# Altium footprint library ti_rba.PcbLib: 1 footprints
Each footprint in its own frame and in the unit in brackets; x right, y up, seen from the top. Pads: shape width x height; smd on the part's side, far side on the other; paste and mask are expansions set on the pad; w line width, h text height; cw(c..) or ccw(c..) is an arc to the next point about the centre after c.
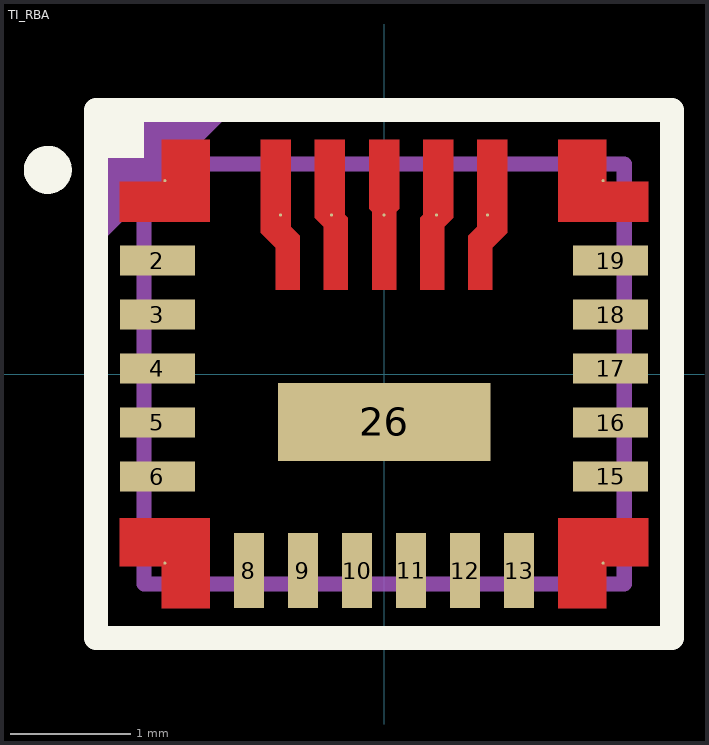
[diagram p0: the footprint, top view; thin cyan lines are the x and y axes]

## TI_RBA [mm]
height 0.8
pads (26):
  round 0.025 smd: 1(-1.825,1.61) 7(-1.825,-1.575) 14(1.825,-1.575) 20(1.825,1.61) 21(0.863,1.325) 22(0.437,1.325) 23(0,1.325) 24(-0.437,1.325) 25(-0.863,1.325)
  rect 0.625x0.25 smd: 2(-1.888,0.945) 3(-1.888,0.495) 4(-1.888,0.045) 5(-1.888,-0.405) 6(-1.888,-0.855) 15(1.888,-0.855) 16(1.888,-0.405) 17(1.888,0.045) 18(1.888,0.495) 19(1.888,0.945)
  rect 0.25x0.625 smd: 8(-1.125,-1.638) 9(-0.675,-1.638) 10(-0.225,-1.638) 11(0.225,-1.638) 12(0.675,-1.638) 13(1.125,-1.638)
  rect 1.77x0.652 smd: 26(0,-0.399)
Top Layer:
  region: -2.2,1.27 -1.45,1.27 -1.45,1.95 -1.85,1.95 -1.85,1.6 -2.2,1.6
  region: 2.2,1.27 1.45,1.27 1.45,1.95 1.85,1.95 1.85,1.6 2.2,1.6
  region: -2.2,-1.2 -1.45,-1.2 -1.45,-1.95 -1.85,-1.95 -1.85,-1.6 -2.2,-1.6
  region: 2.2,-1.2 1.45,-1.2 1.45,-1.95 1.85,-1.95 1.85,-1.6 2.2,-1.6
  region: -1.025,1.95 -0.775,1.95 -0.775,1.225 -0.7,1.15 -0.7,0.7 -0.9,0.7 -0.9,1.05 -1.025,1.175
  region: -0.575,1.95 -0.325,1.95 -0.325,1.325 -0.3,1.3 -0.3,0.7 -0.5,0.7 -0.5,1.225 -0.575,1.3
  region: -0.125,1.95 0.125,1.95 0.125,1.375 0.1,1.35 0.1,0.7 -0.1,0.7 -0.1,1.35 -0.125,1.375
  region: 0.575,1.95 0.325,1.95 0.325,1.325 0.3,1.3 0.3,0.7 0.5,0.7 0.5,1.225 0.575,1.3
  region: 1.025,1.95 0.775,1.95 0.775,1.225 0.7,1.15 0.7,0.7 0.9,0.7 0.9,1.05 1.025,1.175
Top Overlay:
  circle w0.2: c-2.8,1.7 r0.1
  rectangle: -2.4,1.8 -2,2.2
  lines w0.2: -2.4,-2.2 2.4,-2.2 2.4,2.2 -2.4,2.2 -2.4,-2.2
Top 3D Body (Mech13):
  lines w0.127: -2,-1.75 2,-1.75 2,1.75 -2,1.75 -2,-1.75
Top Courtyard:
  region: -2.4,2.1 -1.352,2.1 -2.4,1.052
  lines w0.127: -2.4,-2.2 2.4,-2.2 2.4,2.2 -2.4,2.2 -2.4,-2.2
Top Designator:
  text ".Designator" at -1.073,-0.104 h0.51
3D body "BQ25690RBAR.stp": height 0.8, standoff 0, extent -2,-1.75 2,1.75